# Altium integrated library LPEDT_Parts.IntLib: 21 symbols
Pins are listed as number, name and electrical type; pins without a type are passive.

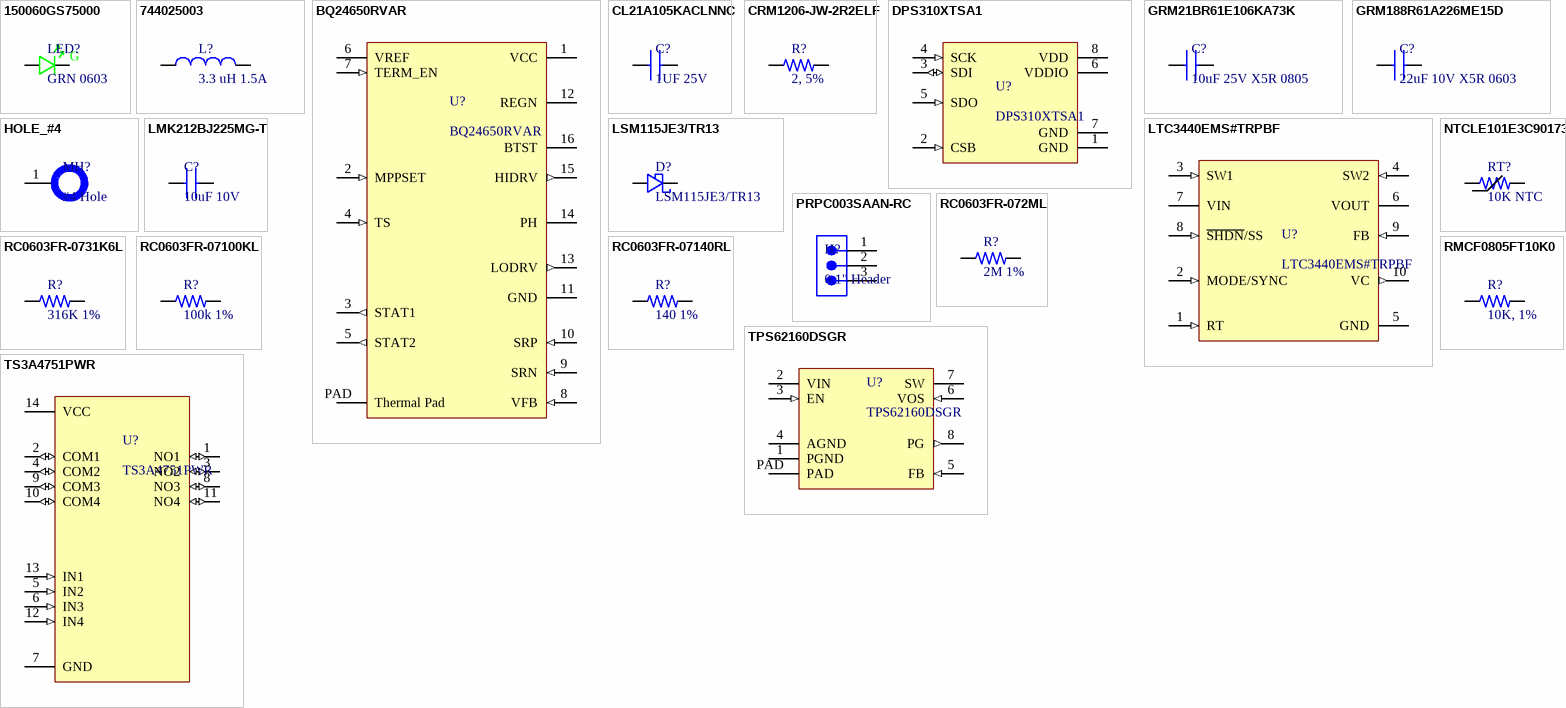
[diagram p0: symbols 150060GS75000 to TS3A4751PWR]

## 150060GS75000
designator LED?, comment GRN 0603
LED, 0603, GREEN, 430MCD, 520NM; Manufacturer: Wurth Electronics; Manufacturer Part Number: 150060GS75000; Dynamic Catalog: 0603 Rectangle with Flat Top Chip LEDs; 3D Model: SMCW_0603.igs / SMCW_0603.stp / SMCW_0603.wrl; Wavelength - Peak: 515nm; Voltage - Forward (Vf) (Typ): 3.2V; Current - Test: 20mA; Viewing Angle: 140°; Lens Type: Clear; Lens Style/Size: Rectangle with Flat Top, 1.1mm x 0.7mm; Other Names: 732-4971-2; Supplier 1: Digi-Key; Stock 1: 34964; Pricing 1: 1=0.14, 50=0.129, 100=0.11, 500=0.095 (USD); Standard Package: 4,000; Category: Optoelectronics; Family: LED Indication - Discrete; Series: WL-SMCW; Packaging: Tape & Reel (TR); Color: Green; Wavelength - Dominant: 520nm; Millicandela Rating: 430mcd; Package / Case: 0603 (1608 Metric); Size / Dimension: 1.60mm L x 0.80mm W; Height: 0.70mm; Mounting Type: Surface Mount; Online Catalog: 0603 Rectangle with Flat Top Chip LEDs; ComponentLink1URL: https://katalog.we-online.de/led/datasheet/150060GS75000.pdf?src-supplier=Digi-Key; ComponentLink1Description: https://katalog.we-online.de/led/datasheet/150060GS75000.pdf?src-supplier=Digi-Key; ComponentLink2URL: http://www.produktinfo.conrad.com/datenblaetter/750000-774999/759427-da-01-en-CHIPLED_0603_W_KL_GRUEN_150060GS75000.pdf?src-supplier=Conrad; ComponentLink2Description: http://www.produktinfo.conrad.com/datenblaetter/750000-774999/759427-da-01-en-CHIPLED_0603_W_KL_GRUEN_150060GS75000.pdf?src-supplier=Conrad; Supplier Part Number 1: 732-4971-1-ND
footprint LED_0603_GRN_WL-SMCW (SODFL, 2-Leads, Body 0.80x1.80mm, IPC Medium Density)
pins: A, C
text: G

## 744025003
designator L?, comment 3.3 uH 1.5A
WURTH ELEKTRONIK - 744025003 - Leistungsinduktivität (SMD), 3.3 µH, 1.5 A, Geschirmt, 1.8 A, Baureihe WE-TPC; Manufacturer: Wurth Electronics; Core Material: Ferrite; Tolerance: 20%; Saturation Current: 1.8A; Shielding: Shielded; Self Resonant Frequency: 100MHz; Inductance: 3.3uH; DC Resistance (DCR): 101mR; Test Frequency: 100kHz; Series Resistance: 85MR; Supplier 1: Digi-Key; Manufacturer Part Number: 744025003; RoHS: Yes; Category: Fixed Inductors; Stock 1: 2844; Pricing 1: 1=1.54000, 10=1.48000, 50=1.36000, 100=1.13000, 250=1.02000 (USD); Mount: Surface Mount; Case/Package: Nonstandard; Number of Pins: 2; Min Operating Temperature: -40°C; Max Operating Temperature: 125°C; Package Quantity: 1; Packaging: Cut Tape; Series: WE-TPC; Current Rating: 1.5A; Inductance Tolerance: 20%; Resistor Type: Wirewound; Max DC Current: 1.5A; Termination: SMD/SMT; RMS Current (Irms): 1.5A; Length: 2.8mm; Width: 0.11inch; Height: 2.8mm; Height - Seated (Max): 0.118inch; Depth: 2.8mm; REACH SVHC: Unknown; RoHS Compliant: Yes; ComponentLink1URL: https://datasheet.ciiva.com/1060/744025003-1060566.pdf?src-supplier=Digi-Key; ComponentLink1Description: https://datasheet.ciiva.com/1060/744025003-1060566.pdf?src-supplier=Digi-Key; ComponentLink2URL: https://datasheet.ciiva.com/11803/0900766b80f886b5-11803594.pdf?src-supplier=RSComponents; ComponentLink2Description: https://datasheet.ciiva.com/11803/0900766b80f886b5-11803594.pdf?src-supplier=RSComponents; ComponentLink3URL: https://datasheet.ciiva.com/4954/744025003-88791-4954796.pdf?src-supplier=Mouser; ComponentLink3Description: https://datasheet.ciiva.com/4954/744025003-88791-4954796.pdf?src-supplier=Mouser; ComponentLink4URL: https://datasheet.ciiva.com/14123/744025003-eng-tds-14123829.pdf?src-supplier=Distrelec; ComponentLink4Description: https://datasheet.ciiva.com/14123/744025003-eng-tds-14123829.pdf?src-supplier=Distrelec; ComponentLink5URL: https://datasheet.ciiva.com/1060/744025003-1060567.pdf?src-supplier=Digi-Key; ComponentLink5Description: https://datasheet.ciiva.com/1060/744025003-1060567.pdf?src-supplier=Digi-Key; ComponentLink6URL: https://datasheet.ciiva.com/1060/744025003-1060568.pdf?src-supplier=Digi-Key; ComponentLink6Description: https://datasheet.ciiva.com/1060/744025003-1060568.pdf?src-supplier=Digi-Key
footprint IND_2828x30 (Precision Wire Wound Inductor, 2-Leads, Body 2.80x2.80mm, IPC Medium Density)
pins: 1, 2

## BQ24650RVAR
designator U?
High Efficiency Synchronous Switch-Mode Charger Controller – Solar Battery Charger 16-VQFN -40 to 85; Manufacturer: Texas Instruments; Output Voltage: 26V; Min Supply Voltage: 5V; Max Supply Voltage: 28V; Output Current: 10A; Operating Supply Current: 25mA; Switching Frequency: 600kHz; Number of Cells: 123456; Supplier 1: Digi-Key; Manufacturer Part Number: BQ24650RVAR; RoHS: Yes; Category: Battery Management; Stock 1: 7704; Pricing 1: 1=4.94000, 10=4.44000, 25=4.19760, 100=3.45140, 250=3.09688, 500=2.98496, 1000=2.48125 (USD); Case/Package: VQFN EP; Number of Pins: 16; Contact Plating: Gold; Min Operating Temperature: -40°C; Max Operating Temperature: 85°C; Package Quantity: 3000; Packaging: Tape and Reel; Min Input Voltage: 5V; Series: -; Radiation Hardening: No; Lead Free: Lead Free; RoHS Compliant: Yes; ComponentLink1URL: https://datasheet.ciiva.com/15115/getdatasheetpartid-517726-15115144.pdf?src-supplier=Verical; ComponentLink1Description: https://datasheet.ciiva.com/15115/getdatasheetpartid-517726-15115144.pdf?src-supplier=Verical; ComponentLink2URL: https://datasheet.ciiva.com/1934/bq24650-1934895.pdf?src-supplier=Digi-Key; ComponentLink2Description: https://datasheet.ciiva.com/1934/bq24650-1934895.pdf?src-supplier=Digi-Key; ComponentLink3URL: https://datasheet.ciiva.com/3214/bq24650-3214319.pdf?src-supplier=Avnet; ComponentLink3Description: https://datasheet.ciiva.com/3214/bq24650-3214319.pdf?src-supplier=Avnet
footprint 16-QFN_3_5x3_5 (QFN, 16-Leads, Body 3.50x3.50mm, Pitch 0.50mm, Thermal Pad 1.78x1.78mm, IPC Medium Density)
pins: 1 VCC (power) "IC power positive supply. Place a 1uF ceramic capacitor from VCC to GND and place it as close as possible to IC. Place a 10-Ω resistor from input side to VCC pin to filter the noise.", 2 MPPSET (in) ""Input voltage set point. Use a voltage divider from input source to GND to set voltage on MPPSET to 1.2 / V. To disable charge, pull MPPSET below 75 mV."", 3 STAT1 (out) ""Open-drain charge status output to indicate various charger operation. Connect to the cathode of LED / with 10 kΩ to the pullup rail. LOW or LED light up indicates charge in progress. Otherwise stays HI or / LED stays off. When any fault condition occurs, both STAT1 and STAT2 are HI, or both LEDs are off."", 4 TS (in) ""Temperature qualification voltage input. Connect to a negative temperature coefficient thermistor. / Program the hot and cold temperature window with a resistor divider from VREF to TS to GND. A 103AT- / 2 thermister is recommended."", 5 STAT2 (out) ""Open-drain charge status output to indicate various charger operation. Connect to the cathode of LED / with 10 kΩ to the pullup rail. LOW or LED light up indicates charge is complete. Otherwise, stays HI or / LED stays off. When any fault condition occurs, both STAT1 and STAT2 are HI, or both LEDs are off."", 6 VREF (power) ""3.3-V reference voltage output. Place a 1-μF ceramic capacitor from VREF to GND pin close to the IC. / This voltage could be used for programming voltage on TS and the pullup rail of STAT1 and STAT2."", 7 TERM_EN (in) ""Charge termination enable. Pull TERM_EN to GND to disable charge termination. Pull TERM_EN to / VREF to allow charge termination. TERM_EN must be terminated and cannot be left floating."", 8 VFB (in) ""Charge voltage analog feedback adjustment. Connect the output of a resistor divider powered from the / battery terminals to this node to adjust the output battery voltage regulation."", 9 SRN (in) ""Charge current sense resistor, negative input. A 0.1-μF ceramic capacitor is placed from SRN to SRP to / provide differential-mode filtering. An optional 0.1-μF ceramic capacitor is placed from SRN to GND for / common-mode filtering."", 10 SRP (in) ""Charge current sense resistor, positive input. A 0.1-μF ceramic capacitor is placed from SRN to SRP to / provide differential-mode filtering. A 0.1-μF ceramic capacitor is placed from SRP to GND for commonmode / filtering."", 11 GND (power) ""Power ground. Ground connection for high-current power converter node. On PCB layout, connect / directly to source of low-side power MOSFET, to ground connection of input and output capacitors of the / charger. Only connect to GND through the thermal pad underneath the IC."", 12 REGN (power) ""PWM low-side driver positive 6-V supply output. Connect a 1-μF ceramic capacitor from REGN to GND, / close to the IC. Use to drive low-side driver and high-side driver bootstrap Schottky diode from REGN to / BTST."", 13 LODRV (out) ""PWM low-side driver output. Connect to the gate of the low-side N-channel power MOSFET with a short / trace."", 14 PH (power) ""Switching node, charge current output inductor connection. Connect the 0.1-μF bootstrap capacitor from / PH to BTST."", 15 HIDRV (out) ""PWM high-side driver output. Connect to the gate of the high-side N-channel power MOSFET with a short / trace."", 16 BTST (power) "PWM high-side driver positive supply. Connect the 0.1-μF bootstrap capacitor from PH to BTST.", PAD Thermal Pad (power) ""Exposed pad beneath the IC. The thermal pad must always be soldered to the board and have the vias / on the thermal pad plane star-connecting to GND and ground plane for high-current power converter. It / also serves as a thermal pad to dissipate heat.""

## CL21A105KACLNNC
designator C?, comment 1UF 25V
Cap Ceramic 1uF 25V X5R 10% SMD 0805 85C Paper T/R; Manufacturer: Samsung; Manufacturer Part Number: CL21A105KACLNNC; Supplier 1: Digi-Key; RoHS: Yes; Category: Ceramic Capacitors; Stock 1: 356000; Pricing 1: 4000=0.02185, 8000=0.02033 (USD); Mount: Surface Mount; Case/Package: 0805; Case Code (Metric): 2012; Case Code (Imperial): 0805; Min Operating Temperature: -55°C; Max Operating Temperature: 85°C; Capacitance: 1uF; Tolerance: 10%; Dielectric: X5R; Package Quantity: 1; Packaging: Tape and Reel; Voltage Rating: 25V; Series: CL; Construction: Flat; Length: 2mm; Width: 0.049inch; Height: 0.85mm; Depth: 1.25mm; Thickness: 0.037inch; Radiation Hardening: No; Lead Free: Lead Free; RoHS Compliant: Yes; ComponentLink1URL: https://datasheet.ciiva.com/25719/cl21a105kaclnnc-25719413.pdf?src-supplier=Digi-Key; ComponentLink1Description: https://datasheet.ciiva.com/25719/cl21a105kaclnnc-25719413.pdf?src-supplier=Digi-Key; ComponentLink2URL: https://datasheet.ciiva.com/16291/cl21a105kaclnnc-16291978.pdf?src-supplier=Future+Electronics; ComponentLink2Description: https://datasheet.ciiva.com/16291/cl21a105kaclnnc-16291978.pdf?src-supplier=Future+Electronics
footprint CAP_0805_1_4MM (Chip Capacitor, 2-Leads, Body 2.00x1.25mm, IPC Medium Density)
pins: 1, 2

## CRM1206-JW-2R2ELF
designator R?, comment 2, 5%
BOURNS - CRM1206-JW-2R2ELF - SMD Current Sense Resistor, 2.2 ohm, CRM Series, 1206 [3216 Metric], 500 mW, ± 5%, Thick Film; Resistance: 2.2R; Temperature Coefficient: 200ppm/°C; Power Rating: 500mW; Voltage Rating: 200V; Supplier 1: Digi-Key; Manufacturer: Bourns; Manufacturer Part Number: CRM1206-JW-2R2ELF; RoHS: Yes; Category: Chip SMD Resistors; Stock 1: 20424; Pricing 1: 1=0.14000, 10=0.12200, 25=0.08480, 50=0.06580, 100=0.04700, 250=0.03664, 500=0.02914, 1000=0.02068 (USD); Case/Package: 1206; Number of Pins: 2; Case Code (Metric): 3216; Case Code (Imperial): 1206; Min Operating Temperature: -55°C; Max Operating Temperature: 155°C; Tolerance: 5%; Resistor Type: Thick Film; Packaging: Cut Tape; Package Quantity: 5000; Number of Terminations: 2; Max Power Dissipation: 500mW; Voltage Rating (DC): 200V; Series: CRM1206; Construction: Rectangular; Resistance Tolerance: 5%; Length: 3.1mm; Width: 0.063inch; Height: 0.026inch; Depth: 1.6mm; REACH SVHC: No SVHC; Military Standard: Not; RoHS Compliant: Yes; ComponentLink1URL: https://datasheet.ciiva.com/9123/crm0805-1206-2010-9123253.pdf?src-supplier=Avnet; ComponentLink1Description: https://datasheet.ciiva.com/9123/crm0805-1206-2010-9123253.pdf?src-supplier=Avnet; ComponentLink2URL: https://datasheet.ciiva.com/7985/1859481-7985944.pdf?src-supplier=Element14; ComponentLink2Description: https://datasheet.ciiva.com/7985/1859481-7985944.pdf?src-supplier=Element14; ComponentLink3URL: https://datasheet.ciiva.com/6562/crm0805-1206-2010-6562779.pdf?src-supplier=Digi-Key; ComponentLink3Description: https://datasheet.ciiva.com/6562/crm0805-1206-2010-6562779.pdf?src-supplier=Digi-Key; ComponentLink4URL: https://datasheet.ciiva.com/6562/crm0805-1206-2010-6562780.pdf?src-supplier=Digi-Key; ComponentLink4Description: https://datasheet.ciiva.com/6562/crm0805-1206-2010-6562780.pdf?src-supplier=Digi-Key; ComponentLink5URL: https://datasheet.ciiva.com/6562/crm0805-1206-2010-6562782.pdf?src-supplier=Digi-Key; ComponentLink5Description: https://datasheet.ciiva.com/6562/crm0805-1206-2010-6562782.pdf?src-supplier=Digi-Key; ComponentLink6URL: https://datasheet.ciiva.com/16929/crm0805-1206-2010-16929262.pdf?src-supplier=Avnet+Europe; ComponentLink6Description: https://datasheet.ciiva.com/16929/crm0805-1206-2010-16929262.pdf?src-supplier=Avnet+Europe
footprint RES_1206_310X16 (Chip Resistor, 2-Leads, Body 3.10x1.60mm, IPC Medium Density)
pins: 1, 2

## DPS310XTSA1
designator U?
INFINEON - DPS310XTSA1 - Pressure Sensor, Barometric, 17.404 psi, 4.351 psi, 1.7 V, 3.6 V; Interface: I2C,SPI; Max Supply Voltage: 3.6V; Output Type: SPI,I2C; Pressure Type: Vented Gauge; Operating Pressure: 17.4PSI; Max Pressure: 145PSI; Supplier 1: Digi-Key; Manufacturer: Infineon; Manufacturer Part Number: DPS310XTSA1; RoHS: Yes; Category: Pressure Sensors; Stock 1: 17160; Pricing 1: 1=2.89000, 5=2.68200, 10=2.22800, 25=1.85640, 50=1.65000, 100=1.56750, 500=1.32000, 1000=1.23750 (USD); Case/Package: LGA; Number of Pins: 8; Min Operating Temperature: -40°C; Max Operating Temperature: 85°C; Termination: SMD/SMT; Lead Free: Lead Free; Halogen Free: Halogen Free; RoHS Compliant: Yes; ComponentLink1URL: http://www.farnell.com/datasheets/2211517.pdf?src-supplier=Farnell; ComponentLink1Description: http://www.farnell.com/datasheets/2211517.pdf?src-supplier=Farnell; ComponentLink2URL: https://www.infineon.com/dgdl/Infineon-DPS310-DS-v01_00-EN.pdf?fileId=5546d462576f34750157750826c42242&src-supplier=Digi-Key; ComponentLink2Description: https://www.infineon.com/dgdl/Infineon-DPS310-DS-v01_00-EN.pdf?fileId=5546d462576f34750157750826c42242&src-supplier=Digi-Key; ComponentLink3URL: http://www.farnell.com/datasheets/2211517.pdf?src-supplier=Newark; ComponentLink3Description: http://www.farnell.com/datasheets/2211517.pdf?src-supplier=Newark; ComponentLink4URL: http://www.farnell.com/datasheets/2211517.pdf?src-supplier=Element14; ComponentLink4Description: http://www.farnell.com/datasheets/2211517.pdf?src-supplier=Element14
footprint 8-VLGA_2x2_5x1 (VLGA, 8-Leads, Body 2.00x2.50mmx1.00mm, Pitch 0.65mm)
pins: 1 GND (power) "Groud", 2 CSB (in) "Not used - open (internal pullup) or tie to VDDIO", 3 SDI (io) "Serial data in/out", 4 SCK (in) "Serial Clock", 5 SDO (in) "Interrupt pin and least significant bit in the device address", 6 VDDIO (power) "Digital supply voltage for digital blocks and I/O interface", 7 GND (power) "Ground", 8 VDD (power) "Supply voltage for analog blocks"

## GRM21BR61E106KA73K
designator C?, comment 10uF 25V X5R 0805
CAP CER 10UF 25V X5R 0805; Manufacturer: Murata; Manufacturer Part Number: GRM21BR61E106KA73K; Tolerance: 10%; Supplier 1: Digi-Key; RoHS: Yes; Category: Ceramic Capacitors; Stock 1: 101639; Pricing 1: 1=0.23000, 10=0.15700, 50=0.09400, 100=0.07940, 500=0.05434, 1000=0.04807, 2500=0.04598, 5000=0.04180 (USD); Mount: Surface Mount; Case/Package: 0805; Weight: 0.000335oz; Min Operating Temperature: -55°C; Max Operating Temperature: 85°C; Packaging: Tape and Reel; Capacitance: 10uF; Voltage Rating: 25V; Package Quantity: 10000; Dielectric: X5R; Voltage Rating (DC): 25V; Length: 0.079inch; Width: 0.049inch; Thickness: 0.055inch; RoHS Compliant: Yes; ComponentLink1URL: http://www.mouser.com/ds/2/281/c02e-2905.pdf?src-supplier=Mouser; ComponentLink1Description: http://www.mouser.com/ds/2/281/c02e-2905.pdf?src-supplier=Mouser; ComponentLink2URL: http://search.murata.co.jp/Ceramy/image/img/A01X/G101/ENG/GRM21BR61E106KA73-01.pdf?src-supplier=Digi-Key; ComponentLink2Description: http://search.murata.co.jp/Ceramy/image/img/A01X/G101/ENG/GRM21BR61E106KA73-01.pdf?src-supplier=Digi-Key; ComponentLink3URL: https://search.murata.co.jp/Ceramy/image/img/A01X/G101/ENG/GRM21BR61E106KA73-01.pdf?src-supplier=Digi-Key; ComponentLink3Description: https://search.murata.co.jp/Ceramy/image/img/A01X/G101/ENG/GRM21BR61E106KA73-01.pdf?src-supplier=Digi-Key
footprint CAP_0805_1_4MM (Chip Capacitor, 2-Leads, Body 2.00x1.25mm, IPC Medium Density)
pins: 1, 2

## GRM188R61A226ME15D
designator C?, comment 22uF 10V X5R 0603
CAP CER 22UF 10V X5R 0603; Manufacturer: Murata; Manufacturer Part Number: GRM188R61A226ME15D; Voltage Rating DC: 10 VDC; Tolerance: 20 %; Brand: Murata Electronics; Type: Voltage and Temperature Derating Recommended Product; Unit Weight: 0.000222 oz; Supplier 1: Digi-Key; Supplier Part Number 1: 490-10476-1-ND; Stock 1: 849458; Pricing 1: 1=0.33, 10=0.226, 50=0.1506, 100=0.1279, 500=0.0903, 1000=0.079 (USD); Product Category: Multilayer Ceramic Capacitors MLCC - SMD/SMT; RoHS: True; Capacitance: 22 uF; Dielectric: X5R; Case Code - in: 0603; Case Code - mm: 1608; Height: 0.8 mm; Maximum Operating Temperature: + 85 C; Minimum Operating Temperature: - 55 C; Product: General Type MLCCs; Series: GRM; Packaging: Reel; Length: 1.6 mm; Package / Case: 0603 (1608 metric); Factory Pack Quantity: 4000; Termination Style: SMD/SMT; Width: 0.8 mm; ComponentLink1URL: http://www.farnell.com/datasheets/2047978.pdf?src-supplier=Element14; ComponentLink1Description: http://www.farnell.com/datasheets/2047978.pdf?src-supplier=Element14
footprint CAP_0603_1MM (Chip Capacitor, 2-Leads, Body 1.60x0.80mm, IPC Medium Density)
pins: 1, 2

## HOLE_#4
designator MH?, comment #4 Hole  (no BOM)
footprint HOLE_#4
pins: 1

## LMK212BJ225MG-T
designator C?, comment 10uF 10V
CAP CER 2.2UF 10V X5R 0805; Manufacturer: Taiyo Yuden; Manufacturer Part Number: LMK212BJ225MG-T; Tolerance: 20%; Supplier 1: Digi-Key; RoHS: Yes; Category: Ceramic Capacitors; Stock 1: 15727; Pricing 1: 1=0.14000, 10=0.10200, 50=0.05780, 100=0.04780, 500=0.03356, 1000=0.02778 (USD); Mount: Surface Mount; Case/Package: 0805; Case Code (Imperial): 0805; Case Code (Metric): 2012; Weight: 0.000194oz; Min Operating Temperature: -55°C; Max Operating Temperature: 85°C; Capacitance: 2.2uF; Packaging: Tape and Reel; Voltage Rating (DC): 10V; Voltage Rating: 10V; Dielectric: X5R; Termination: SMD/SMT; Resistor Type: Ceramic; Voltage: 10V; Series: M; Length: 2mm; Width: 1.25mm; Height: 1.25mm; Thickness: 0.053inch; Depth: 1.25mm; Radiation Hardening: No; Lead Free: Lead Free; Halogen Free: Halogen Free; RoHS Compliant: Yes; ComponentLink1URL: http://www.mouser.com/ds/2/396/mlcc_all_e-541559.pdf?src-supplier=Mouser; ComponentLink1Description: http://www.mouser.com/ds/2/396/mlcc_all_e-541559.pdf?src-supplier=Mouser; ComponentLink2URL: https://www.yuden.co.jp/productdata/catalog/mlcc01_e.pdf?src-supplier=Digi-Key; ComponentLink2Description: https://www.yuden.co.jp/productdata/catalog/mlcc01_e.pdf?src-supplier=Digi-Key; ComponentLink3URL: http://documents.rs-components.com/techlib://itc_doclist_GB.htm?stockno=7582925&src-supplier=RSComponents; ComponentLink3Description: http://documents.rs-components.com/techlib://itc_doclist_GB.htm?stockno=7582925&src-supplier=RSComponents; ComponentLink4URL: http://ds.yuden.co.jp/TYCOMPAS/ut/detail.do?productNo=LMK212BJ225MG-T&fileName=LMK212BJ225MG-T_SS&mode=specSheetDownload&src-supplier=Digi-Key; ComponentLink4Description: http://ds.yuden.co.jp/TYCOMPAS/ut/detail.do?productNo=LMK212BJ225MG-T&fileName=LMK212BJ225MG-T_SS&mode=specSheetDownload&src-supplier=Digi-Key; ComponentLink5URL: http://www.yuden.co.jp/productdata/catalog/en/mlcc_all_e.pdf?src-supplier=Digi-Key; ComponentLink5Description: http://www.yuden.co.jp/productdata/catalog/en/mlcc_all_e.pdf?src-supplier=Digi-Key
footprint CAP_0805_1_4MM (Chip Capacitor, 2-Leads, Body 2.00x1.25mm, IPC Medium Density)
pins: 1, 2

## LSM115JE3/TR13
designator D?
LSM115J Series 15 V 1 A Surface Mount Schottky Rectifier - DO-214BA; Manufacturer: Microsemi; Forward Voltage: 220mV; Forward Current: 1A; Max Reverse Current: 10mA; Reverse Voltage (DC): 15V; Peak Non-Repetitive Surge Current: 50A; Element Configuration: Single; Supplier 1: Digi-Key; Manufacturer Part Number: LSM115JE3/TR13; RoHS: Yes; Category: Rectifier Diodes; Stock 1: 39247; Pricing 1: 1=1.08000, 10=0.88700, 100=0.69010, 500=0.58490, 1000=0.47647 (USD); Mount: Surface Mount; Number of Pins: 2; Weight: 0.003668oz; Min Operating Temperature: -55°C; Max Operating Temperature: 100°C; Packaging: Tape and Reel; Package Quantity: 3000; Average Rectified Current: 1A; Max Repetitive Reverse Voltage (Vrrm): 15V; Max Forward Surge Current (Ifsm): 50A; Max Reverse Voltage (DC): 15V; Radiation Hardening: No; Lead Free: Lead Free; ComponentLink1URL: https://datasheet.ciiva.com/917/lsm115j-917432.pdf?src-supplier=Digi-Key; ComponentLink1Description: https://datasheet.ciiva.com/917/lsm115j-917432.pdf?src-supplier=Digi-Key
footprint DIODE_4_31X3_62MM (Molded Diode, 2-Leads, Body 4.31x3.62mm, IPC Medium Density)
pins: 1 CATHODE, 2 ANODE

## LTC3440EMS#TRPBF
designator U?
IC REG BUCK BST ADJ 0.6A 10MSOP; Manufacturer: Analog Devices / Linear Technology; Output Voltage: 5.5V; Output Current: 600mA; Efficiency: 96%; Min Input Voltage: 2.5V; Number of Outputs: 1; Switching Frequency: 2MHz; Synchronous Rectifier: Yes; Output Type: Adjustable; Supplier 1: Digi-Key; Manufacturer Part Number: LTC3440EMS#TRPBF; RoHS: Yes; Category: Voltage Regulators - Switching; Stock 1: 8435; Pricing 1: 1=6.71000, 10=6.06200, 25=5.78000, 100=4.79330, 250=4.37040, 500=4.08842, 1000=3.72400 (USD); Case/Package: MSOP; Number of Pins: 10; Min Operating Temperature: -40°C; Max Operating Temperature: 85°C; Package Quantity: 2500; Packaging: Tape and Reel; Series: -; Lead Free: Lead Free; RoHS Compliant: Yes; ComponentLink1URL: https://datasheet.ciiva.com/26899/ltc3440ems-trpbf-26899120.pdf?src-supplier=IIIC; ComponentLink1Description: https://datasheet.ciiva.com/26899/ltc3440ems-trpbf-26899120.pdf?src-supplier=IIIC; ComponentLink2URL: https://datasheet.ciiva.com/2031/3314-2031816.pdf?src-supplier=Digi-Key; ComponentLink2Description: https://datasheet.ciiva.com/2031/3314-2031816.pdf?src-supplier=Digi-Key
footprint 10-MSOP_3x3 (MSOP, 10-Leads, Body 3.00x3.00mm, Pitch 0.50mm, IPC Medium Density)
pins: 1 RT (in) "Timing Resistor to Program the Oscillator", 2 MODE/SYNC (in) ""Timing Resistor to Program the Oscillator / Frequency. The programming frequency range is 300kHz / to 2MHz."", 3 SW1 (in) ""MODE/SYNC = External CLK : Synchronization / of the internal oscillator. A clock frequency / of twice the desired switching frequency and with a pulse / width between 100ns and 2μs is applied."", 4 SW2 (in) ""Switch Pin Where the Internal Switches / A and B are Connected. Connect inductor from SW1 to / SW2. An optional Schottky diode can be connected from / SW1 to ground. Minimize trace length to keep EMI down."", 5 GND (power) ""Switch Pin Where the Internal Switches C / and D are Connected. For applications with output voltages / over 4.3V, a Schottky diode is required from SW2 to VOUT / to ensure the SW pin does not exhibit excess voltage."", 6 VOUT (power) "Signal and Power Ground for the IC.", 7 VIN (power) ""Output of the Synchronous Rectifier. A filter / capacitor is placed from VOUT to GND."", 8 ~{SHDN}/SS (in) ""Input Supply Pin. Internal VCC for the IC. A / ceramic bypass capacitor as close to the VIN pin and GND / (Pin 5) is required."", 9 FB (in) ""Combined Soft-Start and Shutdown. / Grounding this pin shuts down the IC. Tie to >1.5V to / enable the IC and >2.5V to ensure the error amp is not / clamped from soft-start. An RC from the shutdown command / signal to this pin will provide a soft-start function / by limiting the rise time of the VC pin."", 10 VC (out) ""Feedback Pin. Connect resistor divider tap / here. The output voltage can be adjusted from 2.5V to / 5.5V. The feedback reference voltage is typically 1.22V.""

## NTCLE101E3C90173
designator RT?, comment 10K NTC
THERM NTC 10KOHM 3435K RADIAL; Manufacturer: Vishay BCcomponents; Manufacturer Part Number: NTCLE101E3C90173; Max Power Dissipation: 250mW; Tolerance: 1%; Supplier 1: Digi-Key; RoHS: Yes; Category: Thermistors; Stock 1: 1784; Pricing 1: 1=1.78000, 5=1.71600, 10=1.39500, 25=1.20160, 50=1.04060, 100=0.94400, 500=0.79384, 1000=0.70802, 5000=0.64365 (USD); Mount: Through Hole; Case/Package: Radial; Min Operating Temperature: -40°C; Max Operating Temperature: 125°C; Packaging: Bulk; RoHS Compliant: Yes; ComponentLink1URL: http://www.vishay.com/docs/29152/ntcle101e3c9017x.pdf?src-supplier=Digi-Key; ComponentLink1Description: http://www.vishay.com/docs/29152/ntcle101e3c9017x.pdf?src-supplier=Digi-Key
footprint NTC-2_THRUHOLE (NTC, 2 Lead, THRUHOLE)
pins: 1, 2

## PRPC003SAAN-RC
designator H?, comment 0.1" Header
CONN HEADER VERT 3POS 2.54MM; Manufacturer: Sullins; Manufacturer Part Number: PRPC003SAAN-RC; Connector Type: Header, Unshrouded, Breakaway; Number of Positions: 3; Number of Positions Loaded: All; Pitch: 0.100" (2.54mm); Online Catalog: 0.100" (2.54mm) Pitch Connector Headers; Other Names: S9510E-03  S9510E-03-ND; Supplier 1: Digi-Key; Stock 1: 19067; Pricing 1: 1=0.12, 10=0.109, 25=0.0812, 50=0.0696, 100=0.0673, 250=0.058, 500=0.0557 (USD); Standard Package: 1; Category: Connectors, Interconnects; Family: Rectangular Connectors - Headers, Male Pins; Series: -; Packaging: Bulk; Contact Type: Male Pin; Number of Rows: 1; Row Spacing: -; Contact Mating Length: 0.230" (5.84mm); Mounting Type: Through Hole; Termination: Solder; Fastening Type: -; Features: -; Contact Finish: Gold; Contact Finish Thickness: Flash; Color: Black; ComponentLink1URL: https://media.digikey.com/PDF/Data%20Sheets/Sullins%20PDFs/xRxCzzzSxxN-RC_ST_11635-B.pdf?src-supplier=Digi-Key; ComponentLink1Description: https://media.digikey.com/PDF/Data%20Sheets/Sullins%20PDFs/xRxCzzzSxxN-RC_ST_11635-B.pdf?src-supplier=Digi-Key; Supplier Part Number 1: S1011EC-03-ND
footprint 3-PIN_MALE_HEADER_01-IN (.025 SQ Post Terminal Strip Assembly, 1x3 Pins, Vertical, 2.54mm Pitch, Male)
pins: 1, 2, 3

## RC0603FR-072ML
designator R?, comment 2M 1%
Res Thick Film 0603 2M Ohm 1% 0.1W(1/10W) +/-100ppm/ßC Epoxy SMD T/R; Manufacturer: Yageo; Manufacturer Part Number: RC0603FR-072ML; Resistance: 2MR; Power Rating: 100mW; Voltage Rating: 75V; Temperature Coefficient: 100ppm/°C; Voltage Rating (DC): 50V; Supplier 1: Digi-Key; RoHS: Yes; Category: Chip SMD Resistors; Stock 1: 919914; Pricing 1: 1=0.10000, 10=0.02100, 100=0.00840, 1000=0.00379, 2500=0.00329 (USD); Mount: Surface Mount; Case/Package: 0603; Case Code (Imperial): 0603; Case Code (Metric): 1608; Weight: 7.1E-05oz; Size Code: 0603; Min Operating Temperature: -55°C; Max Operating Temperature: 155°C; Tolerance: 1%; Packaging: Tape and Reel; Package Quantity: 1; Termination: SMD/SMT; Resistor Type: Thick Film; Number of Terminations: 2; Max Power Dissipation: 100mW; Features: Moisture Resistant; Series: RC; Technology: THICK FILM; Length: 1.6mm; Width: 0.8mm; Height: 0.45mm; Depth: 0.8mm; Lead Free: Lead Free; RoHS Compliant: Yes; ComponentLink1URL: https://datasheet.ciiva.com/11808/0900766b80f96399-11808743.pdf?src-supplier=RSComponents; ComponentLink1Description: https://datasheet.ciiva.com/11808/0900766b80f96399-11808743.pdf?src-supplier=RSComponents; ComponentLink2URL: https://datasheet.ciiva.com/2454/pyu-r-int-thick-7-2454115.pdf?src-supplier=Digi-Key; ComponentLink2Description: https://datasheet.ciiva.com/2454/pyu-r-int-thick-7-2454115.pdf?src-supplier=Digi-Key; ComponentLink3URL: https://datasheet.ciiva.com/2454/pyu-r-int-thick-7-2454116.pdf?src-supplier=Digi-Key; ComponentLink3Description: https://datasheet.ciiva.com/2454/pyu-r-int-thick-7-2454116.pdf?src-supplier=Digi-Key; ComponentLink4URL: https://datasheet.ciiva.com/2454/pyu-r-int-thick-7-2454114.pdf?src-supplier=Digi-Key; ComponentLink4Description: https://datasheet.ciiva.com/2454/pyu-r-int-thick-7-2454114.pdf?src-supplier=Digi-Key
footprint RES_0603_1608X06 (Chip Resistor, 2-Leads, Body 1.60x0.80mm, IPC Medium Density)
pins: 1, 2

## RC0603FR-0731K6L
designator R?, comment 316K 1%
Res Thick Film 0603 31.6K Ohm 1% 0.1W(1/10W) ?100ppm/?C Molded SMD Paper T/R; Manufacturer: Yageo; Manufacturer Part Number: RC0603FR-0731K6L; Power Rating: 100mW; Resistance: 31.6kR; Temperature Coefficient: 100ppm/°C; Voltage Rating (DC): 50V; Working Voltage: 75V; Supplier 1: Digi-Key; RoHS: Yes; Category: Chip SMD Resistors; Stock 1: 222782; Pricing 1: 1=0.10000, 10=0.02100, 100=0.00840, 1000=0.00379, 2500=0.00329 (USD); Case/Package: 0603; Case Code (Imperial): 0603; Case Code (Metric): 1608; Min Operating Temperature: -55°C; Max Operating Temperature: 155°C; Packaging: Tape and Reel; Tolerance: 1%; Package Quantity: 1; Voltage Rating: 50V; Termination: SMD/SMT; Resistor Type: Thick Film; Number of Terminations: 2; Max Power Dissipation: 100mW; Features: Moisture Resistant; Series: RC; Construction: Rectangular; Technology: METAL OXIDE FILM; Length: 1.6mm; Width: 0.8mm; Height: 0.022inch; Depth: 0.8mm; Lead Free: Lead Free; Military Standard: Not; RoHS Compliant: Yes
footprint RES_0603_1608X06 (Chip Resistor, 2-Leads, Body 1.60x0.80mm, IPC Medium Density)
pins: 1, 2

## RC0603FR-07100KL
designator R?, comment 100k 1%
RES SMD 100K OHM 1% 1/10W 0603; Manufacturer: Yageo; Manufacturer Part Number: RC0603FR-07100KL; Resistance: 100 kOhms; Power Rating: 100 mW; Voltage Rating: 50 V; Temperature Coefficient: 100 PPM / C; Supplier 1: Digi-Key; Supplier Part Number 1: 311-100KHRCT-ND; Stock 1: 13478446; Pricing 1: 1=0.1, 10=0.022, 100=0.009, 1000=0.0041, 2500=0.0035 (USD); Termination Style: SMD/SMT; Product: Thick Film Resistors General Purpose; Tolerance: 1 %; Case Code - in: 0603; Case Code - mm: 1608; Series: RC; Operating Temperature Range: - 55 C to + 155 C; Packaging: Reel; ComponentLink1URL: http://www.farnell.com/datasheets/2167052.pdf?src-supplier=Element14; ComponentLink1Description: http://www.farnell.com/datasheets/2167052.pdf?src-supplier=Element14; ComponentLink2URL: http://www.farnell.com/datasheets/1868787.pdf?src-supplier=Element14; ComponentLink2Description: http://www.farnell.com/datasheets/1868787.pdf?src-supplier=Element14; ComponentLink3URL: http://documents.rs-components.com/techlib://itc_doclist_GB.htm?stockno=5048940&src-supplier=RSComponents; ComponentLink3Description: http://documents.rs-components.com/techlib://itc_doclist_GB.htm?stockno=5048940&src-supplier=RSComponents; ComponentLink4URL: http://www.farnell.com/datasheets/443971.pdf?src-supplier=Element14; ComponentLink4Description: http://www.farnell.com/datasheets/443971.pdf?src-supplier=Element14
footprint RES_0603_1608X06 (Chip Resistor, 2-Leads, Body 1.60x0.80mm, IPC Medium Density)
pins: 1, 2

## RC0603FR-07140RL
designator R?, comment 140 1%
Thick Film Resistors 140 OHM 1%; Manufacturer: Yageo; Manufacturer Part Number: RC0603FR-07140RL; Resistance: 140R; Power Rating: 100mW; Voltage Rating: 50V; Temperature Coefficient: 100ppm/°C; Supplier 1: Digi-Key; RoHS: Yes; Category: Chip SMD Resistors; Stock 1: 402396; Pricing 1: 1=0.10000, 10=0.02100, 100=0.00840, 1000=0.00379, 2500=0.00329 (USD); Mount: Surface Mount; Case/Package: 0603; Case Code (Imperial): 0603; Case Code (Metric): 1608; Size Code: 0603; Min Operating Temperature: -55°C; Max Operating Temperature: 155°C; Tolerance: 1%; Packaging: Tape and Reel; Termination: SMD/SMT; Resistor Type: Thick Film; Voltage Rating (DC): 50V; Features: Moisture Resistant; Series: RC; Max Power Dissipation: 100mW; Number of Terminations: 2; Construction: Rectangular; Technology: THICK FILM; Length: 1.6mm; Height: 0.45mm; Depth: 0.8mm; Military Standard: Not; Lead Free: Lead Free; RoHS Compliant: Yes; ComponentLink1URL: https://datasheet.ciiva.com/11808/0900766b80c66297-11808828.pdf?src-supplier=RSComponents; ComponentLink1Description: https://datasheet.ciiva.com/11808/0900766b80c66297-11808828.pdf?src-supplier=RSComponents; ComponentLink2URL: https://datasheet.ciiva.com/15189/getdatasheetpartid-329205-15189606.pdf?src-supplier=Verical; ComponentLink2Description: https://datasheet.ciiva.com/15189/getdatasheetpartid-329205-15189606.pdf?src-supplier=Verical
footprint RES_0603_1608X06 (Chip Resistor, 2-Leads, Body 1.60x0.80mm, IPC Medium Density)
pins: 1, 2

## RMCF0805FT10K0
designator R?, comment 10K, 1%
RES 10K OHM 1% 1/8W 0805; Manufacturer: Stackpole Electronics; Manufacturer Part Number: RMCF0805FT10K0; Resistance: 10kR; Power Rating: 125mW; Temperature Coefficient: 100ppm/°C; Supplier 1: Digi-Key; RoHS: Yes; Category: Chip SMD Resistors; Stock 1: 2466676; Pricing 1: 1=0.10000, 10=0.02600, 100=0.01040, 1000=0.00466, 2500=0.00405 (USD); Mount: Surface Mount; Case/Package: 0805; Case Code (Metric): 2012; Case Code (Imperial): 0805; Contact Plating: Tin,Matte; Size Code: 0805; Min Operating Temperature: -55°C; Max Operating Temperature: 155°C; Tolerance: 1%; Packaging: Tape and Reel; Resistor Type: Thick Film; Number of Terminations: 2; Max Power Dissipation: 125mW; Features: Automotive AEC-Q200; Series: RMCF; Construction: Rectangular; Length: 2mm; Width: 0.049inch; Height: 0.026inch; Depth: 1.25mm; Radiation Hardening: No; Lead Free: Lead Free; Military Standard: Not; RoHS Compliant: Yes; ComponentLink1URL: https://datasheet.ciiva.com/15193/getdatasheetpartid-362046-15193525.pdf?src-supplier=Verical; ComponentLink1Description: https://datasheet.ciiva.com/15193/getdatasheetpartid-362046-15193525.pdf?src-supplier=Verical
footprint RES_0805_2X1_25MM (Chip Resistor, 2-Leads, Body 2.00x1.25mm, IPC Medium Density)
pins: 1, 2

## TPS62160DSGR
designator U?
IC REG BUCK ADJ 1A SYNC 8WSON; Manufacturer: Texas Instruments; Number of Outputs: 1; Output Voltage: 6V; Max Input Voltage: 17V; Min Input Voltage: 3V; Min Output Voltage: 900mV; Switching Frequency: 2.25MHz; Synchronous Rectifier: Yes; Quiescent Current: 17uA; Output Type: Adjustable; Output Configuration: Positive; Supplier 1: Digi-Key; Manufacturer Part Number: TPS62160DSGR; RoHS: Yes; Category: Voltage Regulators - Switching; Stock 1: 13319; Pricing 1: 1=1.59000, 10=1.43100, 25=1.35000, 100=1.08000, 250=0.94500, 500=0.91800, 1000=0.72900 (USD); Case/Package: SOIC; Number of Pins: 8; Contact Plating: Gold; Min Operating Temperature: -40°C; Max Operating Temperature: 125°C; Packaging: Tape and Reel; Package Quantity: 3000; Output Current: 1A; Max Output Current: 1A; Max Output Voltage: 6V; Operating Supply Voltage: 17V; Radiation Hardening: No; REACH SVHC: No SVHC; Lead Free: Lead Free; ComponentLink1URL: https://datasheet.ciiva.com/2026/tps62161-2026049.pdf?src-supplier=Digi-Key; ComponentLink1Description: https://datasheet.ciiva.com/2026/tps62161-2026049.pdf?src-supplier=Digi-Key; ComponentLink2URL: https://datasheet.ciiva.com/2026/tps62160-2026414.pdf?src-supplier=Digi-Key; ComponentLink2Description: https://datasheet.ciiva.com/2026/tps62160-2026414.pdf?src-supplier=Digi-Key; ComponentLink3URL: https://datasheet.ciiva.com/2026/tps62160-2026415.pdf?src-supplier=Digi-Key; ComponentLink3Description: https://datasheet.ciiva.com/2026/tps62160-2026415.pdf?src-supplier=Digi-Key
footprint 8-DFN_2x2 (DFN, 8-Leads, Body 2.00x2.00mm, Pitch 0.50mm, Thermal Pad 1.60x0.69mm, IPC Medium Density)
pins: 1 PGND (power) "Power ground", 2 VIN (power) "Supply voltage", 3 EN (in) "Enable input (high = enabled, Low = disabled)", 4 AGND (power) "Analog ground", 5 FB (in) "Voltage feedback of adjustable version. Connect resistive voltage divider to this pin. It is recommended to connect FB to AGND on fixed output voltage versions for improved thermal performance.", 6 VOS (in) "Output voltage sense pin and connection for the control loop circuitry.", 7 SW (power) "Switch node, which is connected to the internal MOSFET switches. Connect inductor between SW and output capacitor.", 8 PG (out) "Output power good (High = VOUT ready, Low = VOUT below nominal regulation); open drain (requires pull-up resistor; goes high impedance, when device is switched off).", PAD (power) "Must be connected to AGND. Must be soldered to achieve appropriate power dissipation and mechanical reliability."

## TS3A4751PWR
designator U?
IC, SPST ANALOG SWITCH 14-TSSOP; Manufacturer: Texas Instruments; Min Supply Voltage: 1.6V; Max Supply Voltage: 3.6V; Number of Channels: 4; Bandwidth: 125MHz; Operating Supply Voltage: 3V; On-State Resistance: 900mR; Turn-On Delay Time: 14ns; Turn-Off Delay Time: 9ns; Max Supply Current: 75nA; Supply Type: Single; Polarity: Non-Inverting; High Level Output Current: 100mA; Supplier 1: Digi-Key; Manufacturer Part Number: TS3A4751PWR; RoHS: Yes; Category: Decoders and Multiplexers; Stock 1: 66252; Pricing 1: 1=1.23000, 10=1.10100, 25=1.04480, 100=0.80220, 250=0.70892, 500=0.67162, 1000=0.52237 (USD); Mount: Surface Mount; Case/Package: TSSOP; Number of Pins: 14; Weight: 0.002018oz; Contact Plating: Gold; Min Operating Temperature: -40°C; Max Operating Temperature: 85°C; Package Quantity: 1; Packaging: Tape and Reel; Number of Inputs: 4; Number of Outputs: 4; Throw Configuration: SPST; Termination: SMD/SMT; Low Level Output Current: 100mA; Length: 5.1mm; Width: 4.5mm; Height: 1.05mm; Radiation Hardening: No; Lead Free: Lead Free; RoHS Compliant: Yes; REACH SVHC: No SVHC; ComponentLink1URL: https://datasheet.ciiva.com/2980/ts3a4751-2980067.pdf?src-supplier=Avnet; ComponentLink1Description: https://datasheet.ciiva.com/2980/ts3a4751-2980067.pdf?src-supplier=Avnet; ComponentLink2URL: https://datasheet.ciiva.com/15126/getdatasheetpartid-48049-15126911.pdf?src-supplier=Verical; ComponentLink2Description: https://datasheet.ciiva.com/15126/getdatasheetpartid-48049-15126911.pdf?src-supplier=Verical; ComponentLink3URL: https://datasheet.ciiva.com/41461/001187287-da-01-en-ic-switch-quad-ts3a4751pwr-tssop-14-tid-41461731.pdf?src-supplier=Conrad; ComponentLink3Description: https://datasheet.ciiva.com/41461/001187287-da-01-en-ic-switch-quad-ts3a4751pwr-tssop-14-tid-41461731.pdf?src-supplier=Conrad; ComponentLink4URL: https://datasheet.ciiva.com/1671/ts3a4751-1671475.pdf?src-supplier=Digi-Key; ComponentLink4Description: https://datasheet.ciiva.com/1671/ts3a4751-1671475.pdf?src-supplier=Digi-Key; ComponentLink5URL: https://datasheet.ciiva.com/1671/ts3a4751-1671476.pdf?src-supplier=Digi-Key; ComponentLink5Description: https://datasheet.ciiva.com/1671/ts3a4751-1671476.pdf?src-supplier=Digi-Key; ComponentLink6URL: https://datasheet.ciiva.com/6639/ts3a4751-6639431.pdf?src-supplier=Digi-Key; ComponentLink6Description: https://datasheet.ciiva.com/6639/ts3a4751-6639431.pdf?src-supplier=Digi-Key; ComponentLink7URL: https://datasheet.ciiva.com/1514/1764501-1514572.pdf?src-supplier=Element14; ComponentLink7Description: https://datasheet.ciiva.com/1514/1764501-1514572.pdf?src-supplier=Element14
footprint 14-TSSOP_5x4_4 (TSSOP, 14-Leads, Body 5.00x4.40mm, Pitch 0.65mm, IPC Medium Density)
pins: 1 NO1 (io) "Normally open signal path", 2 COM1 (io) "Common signal path", 3 NO2 (io) "Normally open signal path", 4 COM2 (io) "Common signal path", 5 IN2 (in) "Logic control input", 6 IN3 (in) "Logic control input", 7 GND (power) "Ground", 8 NO3 (io) "Normally open signal path", 9 COM3 (io) "Common signal path", 10 COM4 (io) "Common signal path", 11 NO4 (io) "Normally open signal path", 12 IN4 (in) "Logic control input", 13 IN1 (in) "Logic control input", 14 VCC (power) "Positive supply voltage"